# Altium schematic symbol library SCH - MCU - SI LABS - SI LABS EFM32HG222F64 48-PIN QFP 7X7.SchLib: 1 symbol
Pins are listed as number, name and electrical type; pins without a type are passive.

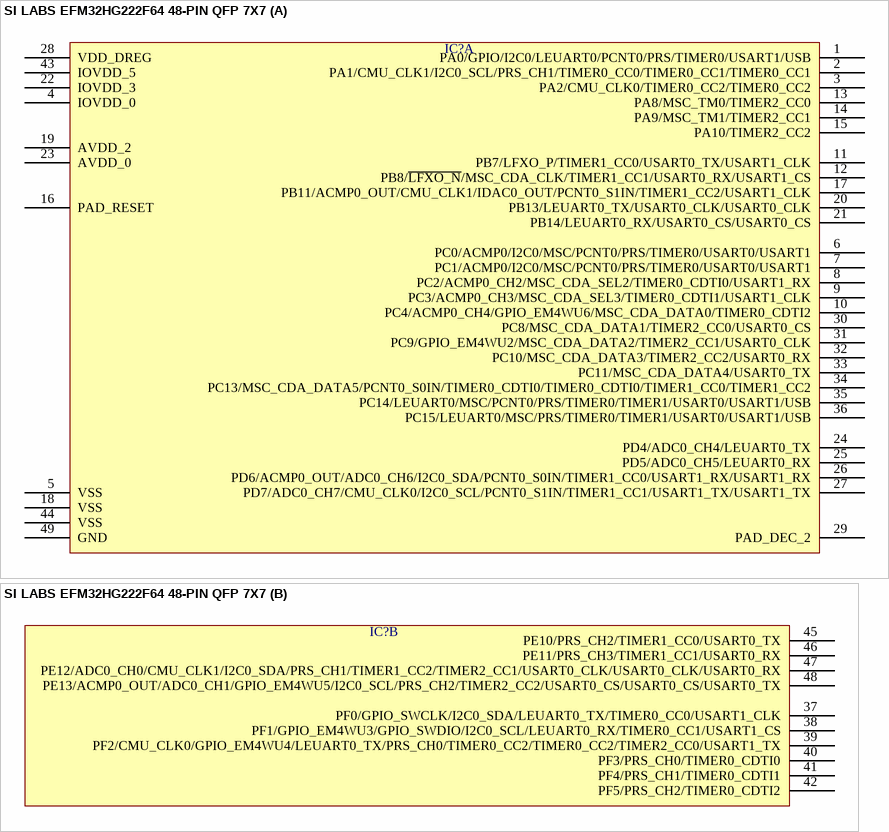
[diagram p0: symbol SI LABS EFM32HG222F64 48-PIN QFP 7X7]

## SI LABS EFM32HG222F64 48-PIN QFP 7X7
designator IC?  (value not drawn)
part A pins: 1 PA0/GPIO/I2C0/LEUART0/PCNT0/PRS/TIMER0/USART1/USB, 2 PA1/CMU_CLK1/I2C0_SCL/PRS_CH1/TIMER0_CC0/TIMER0_CC1/TIMER0_CC1, 3 PA2/CMU_CLK0/TIMER0_CC2/TIMER0_CC2, 4 IOVDD_0, 5 VSS, 6 PC0/ACMP0/I2C0/MSC/PCNT0/PRS/TIMER0/USART0/USART1, 7 PC1/ACMP0/I2C0/MSC/PCNT0/PRS/TIMER0/USART0/USART1, 8 PC2/ACMP0_CH2/MSC_CDA_SEL2/TIMER0_CDTI0/USART1_RX, 9 PC3/ACMP0_CH3/MSC_CDA_SEL3/TIMER0_CDTI1/USART1_CLK, 10 PC4/ACMP0_CH4/GPIO_EM4WU6/MSC_CDA_DATA0/TIMER0_CDTI2, 11 PB7/LFXO_P/TIMER1_CC0/USART0_TX/USART1_CLK, 12 PB8/~{LFXO_N}/MSC_CDA_CLK/TIMER1_CC1/USART0_RX/USART1_CS, 13 PA8/MSC_TM0/TIMER2_CC0, 14 PA9/MSC_TM1/TIMER2_CC1, 15 PA10/TIMER2_CC2, 16 PAD_RESET, 17 PB11/ACMP0_OUT/CMU_CLK1/IDAC0_OUT/PCNT0_S1IN/TIMER1_CC2/USART1_CLK, 18 VSS, 19 AVDD_2, 20 PB13/LEUART0_TX/USART0_CLK/USART0_CLK, 21 PB14/LEUART0_RX/USART0_CS/USART0_CS, 22 IOVDD_3, 23 AVDD_0, 24 PD4/ADC0_CH4/LEUART0_TX, 25 PD5/ADC0_CH5/LEUART0_RX, 26 PD6/ACMP0_OUT/ADC0_CH6/I2C0_SDA/PCNT0_S0IN/TIMER1_CC0/USART1_RX/USART1_RX, 27 PD7/ADC0_CH7/CMU_CLK0/I2C0_SCL/PCNT0_S1IN/TIMER1_CC1/USART1_TX/USART1_TX, 28 VDD_DREG, 29 PAD_DEC_2, 30 PC8/MSC_CDA_DATA1/TIMER2_CC0/USART0_CS, 31 PC9/GPIO_EM4WU2/MSC_CDA_DATA2/TIMER2_CC1/USART0_CLK, 32 PC10/MSC_CDA_DATA3/TIMER2_CC2/USART0_RX, 33 PC11/MSC_CDA_DATA4/USART0_TX, 34 PC13/MSC_CDA_DATA5/PCNT0_S0IN/TIMER0_CDTI0/TIMER0_CDTI0/TIMER1_CC0/TIMER1_CC2, 35 PC14/LEUART0/MSC/PCNT0/PRS/TIMER0/TIMER1/USART0/USART1/USB, 36 PC15/LEUART0/MSC/PRS/TIMER0/TIMER1/USART0/USART1/USB, 43 IOVDD_5, 44 VSS, 49 GND
part B pins: 37 PF0/GPIO_SWCLK/I2C0_SDA/LEUART0_TX/TIMER0_CC0/USART1_CLK, 38 PF1/GPIO_EM4WU3/GPIO_SWDIO/I2C0_SCL/LEUART0_RX/TIMER0_CC1/USART1_CS, 39 PF2/CMU_CLK0/GPIO_EM4WU4/LEUART0_TX/PRS_CH0/TIMER0_CC2/TIMER0_CC2/TIMER2_CC0/USART1_TX, 40 PF3/PRS_CH0/TIMER0_CDTI0, 41 PF4/PRS_CH1/TIMER0_CDTI1, 42 PF5/PRS_CH2/TIMER0_CDTI2, 45 PE10/PRS_CH2/TIMER1_CC0/USART0_TX, 46 PE11/PRS_CH3/TIMER1_CC1/USART0_RX, 47 PE12/ADC0_CH0/CMU_CLK1/I2C0_SDA/PRS_CH1/TIMER1_CC2/TIMER2_CC1/USART0_CLK/USART0_CLK/USART0_RX, 48 PE13/ACMP0_OUT/ADC0_CH1/GPIO_EM4WU5/I2C0_SCL/PRS_CH2/TIMER2_CC2/USART0_CS/USART0_CS/USART0_TX